# EAGLE library part TPL5010 (library bschulz)
TPL5010 - Nano-Power System Timer with Watchdog Functionality Characteristics: Vdd: 1.8V ~ 5.5V IQ: 35nA (typ) Period: 100ms ~ 7200 s Operating Temperature: -40°C to 85°C Digikey: 296-38829-1-ND <https://www.digikey.com/product-detail/en/texas-instruments/TPL5010DDCT/296-38829-1-ND/5130149>
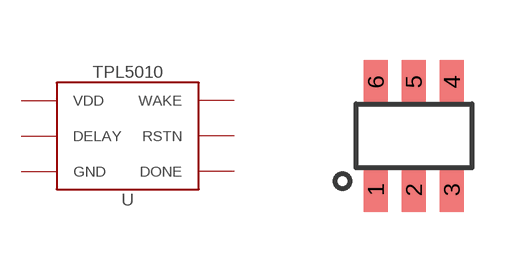
[diagram p88: symbol with the pads of DDC_R-PDSO-G6; footprint DDC_R-PDSO-G6]

Designator prefix U

## TPL5010DDC (DIGIKEY: 296-38829-1-ND; MF: TI; MPN: TPL5010DDCT)  [DDC_R-PDSO-G6]
1  VDD  pwr
2  GND  pwr
3  DELAY  in
4  DONE  in
5  WAKE  out
6  RSTN  out

## Footprint DDC_R-PDSO-G6 (pad centres in mm)
smd 0.6 x 1.1: 1 -0.95,-1.35; 2 0,-1.35; 3 0.95,-1.35; 4 0.95,1.35; 5 0,1.35; 6 -0.95,1.35